# Altium footprint library RF.PcbLib: 3 footprints
Each footprint in its own frame and in the unit in brackets; x right, y up, seen from the top. Pads: shape width x height; smd on the part's side, far side on the other; paste and mask are expansions set on the pad; w line width, h text height; cw(c..) or ccw(c..) is an arc to the next point about the centre after c.
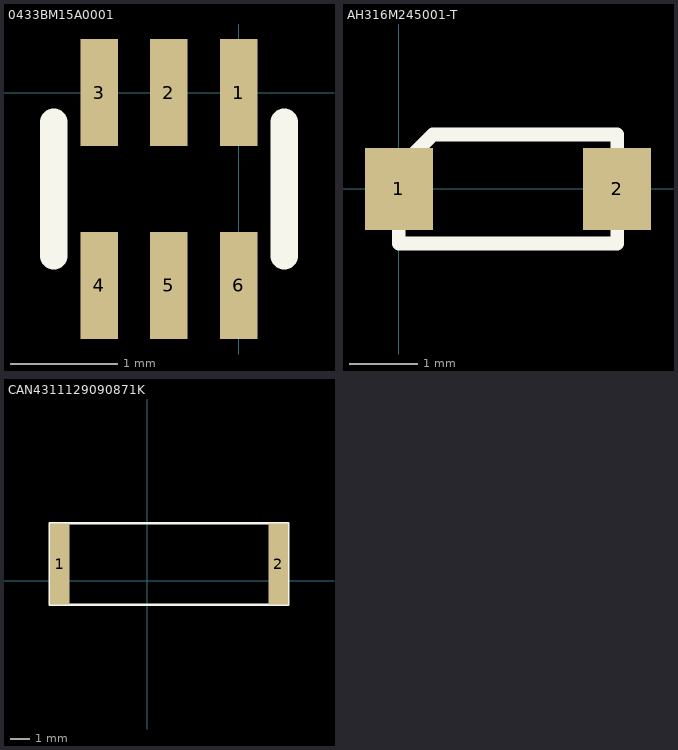
[diagram p0: the footprints below, top view; thin cyan lines are the x and y axes]

## 0433BM15A0001 [mm]
pads (6):
  rect 0.35x1 smd: 1(0,0) 2(-0.65,0) 3(-1.3,0) 4(-1.3,-1.8) 5(-0.65,-1.8) 6(0,-1.8)
Top Overlay:
  lines w0.254: -1.725,-1.525 -1.725,-0.275 ; 0.425,-1.525 0.425,-0.275

## AH316M245001-T [mm] "AH316M245001-T 2.4GHz antenna"
pads (2):
  rect 1x1.2 smd: 1(0,0) 2(3.2,0)
Top Overlay:
  lines w0.2: 0,-0.8 0,0.3 0.5,0.8 3.2,0.8 3.2,-0.8 0,-0.8

## CAN4311129090871K [mm]
pads (2):
  rect 1x4.25 smd: 1(-4.575,0.875) 2(6.825,0.875)
Top Overlay:
  lines w0.15: -5.075,-1.25 7.325,-1.25 7.325,3 -5.075,3 -5.075,-1.25
3D body "User Library-Yageo ANT1204LL08R0870A Ceramic Chip Antenna.step": height 1.6, standoff 0, extent -4.925,-1.175 7.175,2.925